# EAGLE library part RPI3-MODBP-BULK (library Rpi header)
Check availability <https://pricing.snapeda.com/parts/RPI3MODBPBULK/Raspberry%20Pi/view-part?ref=eda>
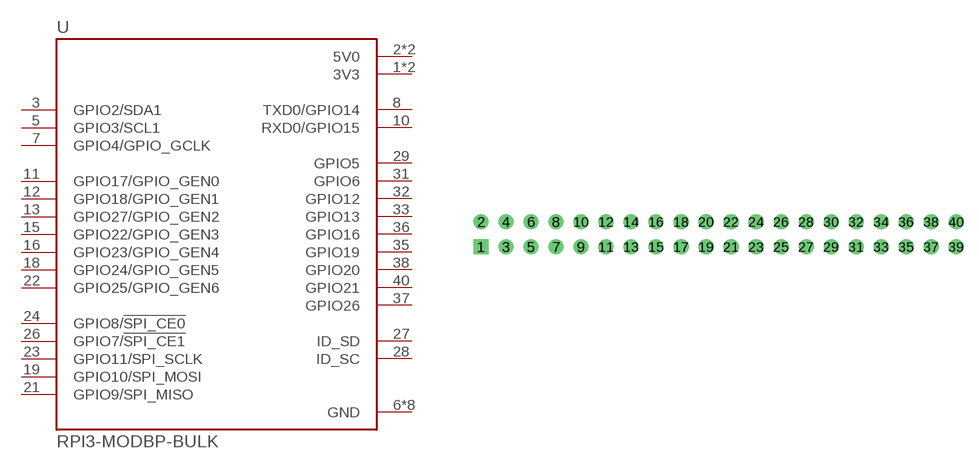
[diagram p0: symbol with the pads of MODULE_RPI3-MODBP-BULK; footprint MODULE_RPI3-MODBP-BULK]

Designator prefix U

## RPI3-MODBP-BULK (AVAILABILITY: In Stock; DESCRIPTION: RASPBERRY PI 3 MODEL B+ BULK PACK 150; Silicon Manufacturer:Broadcom; Silicon Family Name:BCM2xxx; Core Architecture:ARM; Core Sub-Architecture:Cortex-A53; Silicon Core Number:BCM2837B0; Kit Contents:150 Raspberry Pi 3 Model B+ boards only; Product Range:Raspberry Pi 3 Model B+; SVHC:No SVHC (07-Jul-2017); MF: Raspberry Pi; MP: RPI3MODBPBULK; PACKAGE: None; PRICE: None; PURCHASE-URL: https://pricing.snapeda.com/search/part/RPI3MODBPBULK/?ref=eda)  [MODULE_RPI3-MODBP-BULK]
1  3V3  pwr
2  5V0  pwr
3  GPIO2/SDA1
4  5V0  pwr
5  GPIO3/SCL1
6  GND  pwr
7  GPIO4/GPIO_GCLK
8  TXD0/GPIO14
9  GND  pwr
10  RXD0/GPIO15
11  GPIO17/GPIO_GEN0
12  GPIO18/GPIO_GEN1
13  GPIO27/GPIO_GEN2
14  GND  pwr
15  GPIO22/GPIO_GEN3
16  GPIO23/GPIO_GEN4
17  3V3  pwr
18  GPIO24/GPIO_GEN5
19  GPIO10/SPI_MOSI
20  GND  pwr
21  GPIO9/SPI_MISO
22  GPIO25/GPIO_GEN6
23  GPIO11/SPI_SCLK
24  GPIO8/!SPI_CE0
25  GND  pwr
26  GPIO7/!SPI_CE1
27  ID_SD
28  ID_SC
29  GPIO5
30  GND  pwr
31  GPIO6
32  GPIO12
33  GPIO13
34  GND  pwr
35  GPIO19
36  GPIO16
37  GPIO26
38  GPIO20
39  GND  pwr
40  GPIO21

## Footprint MODULE_RPI3-MODBP-BULK (pad centres in mm)
drill 1.02 square: 1 -24.097,-1.154
drill 1.02: 2 -24.097,1.386; 3 -21.557,-1.154; 4 -21.557,1.386; 5 -19.017,-1.154; 6 -19.017,1.386; 7 -16.477,-1.154; 8 -16.477,1.386; 9 -13.937,-1.154; 10 -13.937,1.386; 11 -11.397,-1.154; 12 -11.397,1.386; 13 -8.857,-1.154; 14 -8.857,1.386; 15 -6.317,-1.154; 16 -6.317,1.386; 17 -3.777,-1.154; 18 -3.777,1.386; 19 -1.237,-1.154; 20 -1.237,1.386; 21 1.303,-1.154; 22 1.303,1.386; 23 3.843,-1.154; 24 3.843,1.386; 25 6.383,-1.154; 26 6.383,1.386; 27 8.923,-1.154; 28 8.923,1.386; 29 11.463,-1.154; 30 11.463,1.386; 31 14.003,-1.154; 32 14.003,1.386; 33 16.543,-1.154; 34 16.543,1.386; 35 19.083,-1.154; 36 19.083,1.386; 37 21.623,-1.154; 38 21.623,1.386; 39 24.163,-1.154; 40 24.163,1.386